# Altium footprint library IND.PcbLib: 9 footprints
Each footprint in its own frame and in the unit in brackets; x right, y up, seen from the top. Pads: shape width x height; smd on the part's side, far side on the other; paste and mask are expansions set on the pad; w line width, h text height; cw(c..) or ccw(c..) is an arc to the next point about the centre after c.
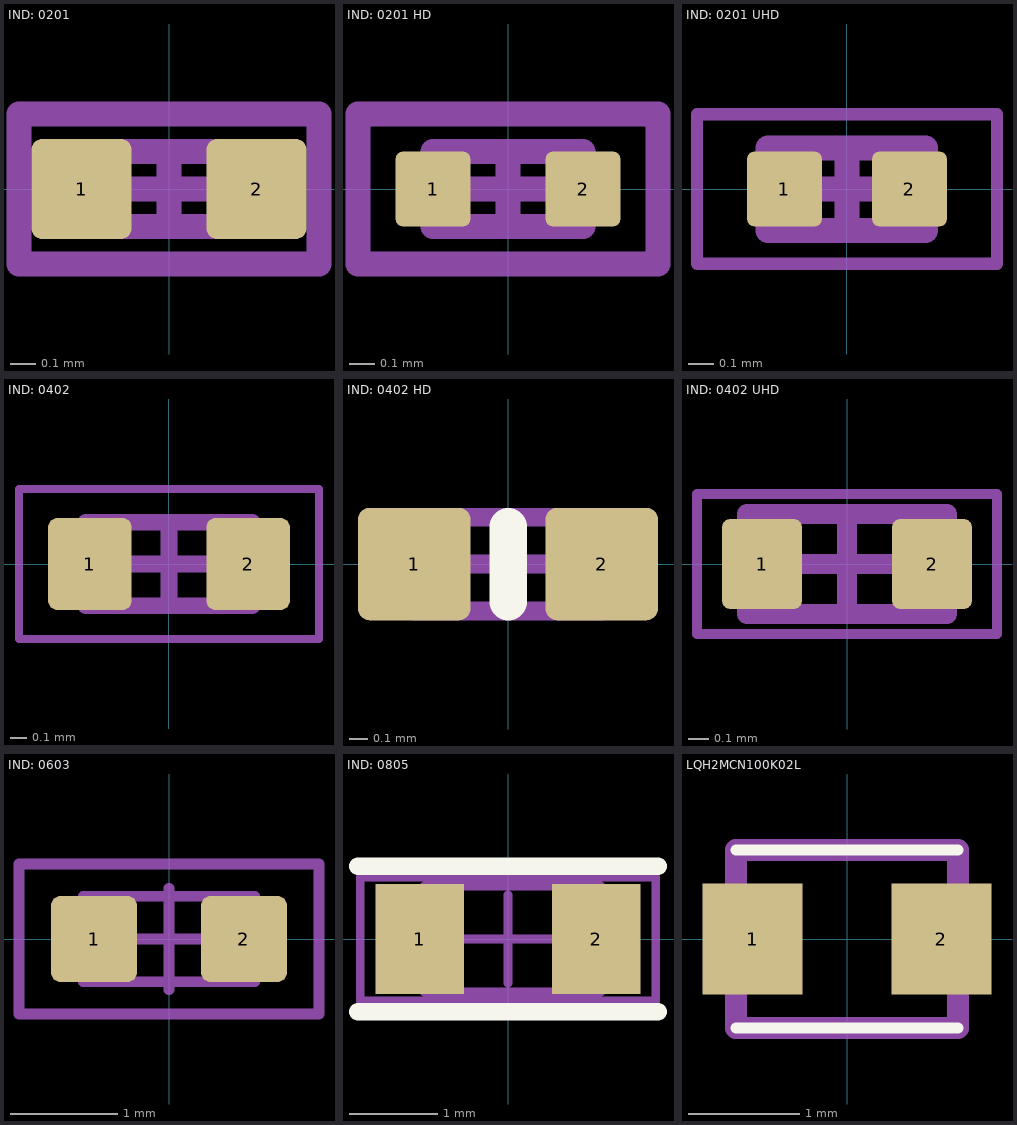
[diagram p0: the footprints below, top view; thin cyan lines are the x and y axes]

## IND: 0201 [mm]
height 0.23
pads (2):
  rrect20% 0.4x0.4 smd: 1(-0.35,0) 2(0.35,0)
Mechanical 1:
  lines w0.1: -0.3,-0.15 0.3,-0.15 0.3,0.15 -0.3,0.15 -0.3,-0.15
Mechanical 15:
  lines w0.1: -0.15,0 0.15,0 ; 0,-0.15 0,0.15 ; -0.6,-0.3 0.6,-0.3 0.6,0.3 -0.6,0.3 -0.6,-0.3
3D body "0201.SLDPRT": height 0.25, standoff 0, extent -0.3,-0.162 0.3,0.162

## IND: 0201 HD [mm]
height 0.23
pads (2):
  rrect20% 0.3x0.3 smd: 1(-0.3,0) 2(0.3,0)
Mechanical 1:
  lines w0.1: -0.3,-0.15 0.3,-0.15 0.3,0.15 -0.3,0.15 -0.3,-0.15
Mechanical 15:
  lines w0.1: -0.15,0 0.15,0 ; 0,-0.15 0,0.15 ; -0.6,-0.3 0.6,-0.3 0.6,0.3 -0.6,0.3 -0.6,-0.3
3D body "0201.SLDPRT": height 0.25, standoff 0, extent -0.3,-0.162 0.3,0.162

## IND: 0201 UHD [mm] "Chip Capacitor, 2-Leads, Body 0.62x0.32mm, IPC High Density"
height 0.33
pads (2):
  rrect20% 0.3x0.3 smd: 1(-0.25,0) 2(0.25,0)
Top Courtyard (Mech6):
  lines w0.05: -0.6,-0.3 -0.6,0.3 0.6,0.3 0.6,-0.3 -0.6,-0.3
  lines w0.1: -0.165,0 0.165,0 ; 0,-0.165 0,0.165
Top Assembly:
  lines w0.1: -0.315,-0.165 -0.315,0.165 0.315,0.165 0.315,-0.165 -0.315,-0.165
3D body "0201.SLDPRT": height 0.25, standoff 0, extent -0.3,-0.162 0.3,0.162

## IND: 0402 [mm]
height 0.4
pads (2):
  rrect20% 0.5x0.55 smd: 1(-0.475,0) 2(0.475,0)
Top Courtyard (Mech6):
  lines w0.05: -0.9,-0.45 -0.9,0.45 0.9,0.45 0.9,-0.45 -0.9,-0.45
  lines w0.1: -0.25,0 0.25,0 ; 0,-0.25 0,0.25
Top 3D Body:
  lines w0.1: -0.5,-0.25 -0.5,0.25 0.5,0.25 0.5,-0.25 -0.5,-0.25
3D body: height 0.4, standoff 0, extent -0.25,-0.25 0.25,0.25
3D body: height 0.4, standoff 0, extent -0.5,-0.25 -0.25,0.25
3D body: height 0.4, standoff 0, extent 0.25,-0.25 0.5,0.25

## IND: 0402 HD [mm]
height 0.35
pads (2):
  rrect20% 0.6x0.6 smd: 1(-0.5,0) 2(0.5,0)
Top Overlay:
  lines w0.2: 0,-0.2 0,0.2
Mechanical 1:
  lines w0.1: -0.5,-0.25 -0.5,0.25 0.5,0.25 0.5,-0.25 -0.5,-0.25
Mechanical 15:
  lines w0.1: -0.25,0 0.25,0 ; 0,-0.25 0,0.25
3D body: height 0.4, standoff 0, extent 0.25,-0.25 0.5,0.25
3D body: height 0.4, standoff 0, extent -0.5,-0.25 -0.25,0.25
3D body: height 0.4, standoff 0, extent -0.25,-0.25 0.25,0.25

## IND: 0402 UHD [mm] "Chip Resistor, 2-Leads, Body 1.00x0.50mm, IPC High Density C1005X04L"
height 0.4
pads (2):
  rrect20% 0.4x0.45 smd: 1(-0.425,0) 2(0.425,0)
Top Courtyard (Mech6):
  lines w0.05: -0.75,-0.35 0.75,-0.35 0.75,0.35 -0.75,0.35 -0.75,-0.35
  lines w0.1: -0.25,0 0.25,0 ; 0,-0.25 0,0.25
Top 3D Body:
  lines w0.1: -0.5,-0.25 0.5,-0.25 0.5,0.25 -0.5,0.25 -0.5,-0.25
3D body: height 0.4, standoff 0, extent 0.25,-0.25 0.5,0.25
3D body: height 0.4, standoff 0, extent -0.5,-0.25 -0.25,0.25
3D body: height 0.4, standoff 0, extent -0.25,-0.25 0.25,0.25

## IND: 0603 [mm]
height 0.45
pads (2):
  rrect20% 0.8x0.8 smd: 1(-0.7,0) 2(0.7,0)
Mechanical 1:
  lines w0.1: -0.8,-0.4 -0.8,0.4 0.8,0.4 0.8,-0.4 -0.8,-0.4
Top Courtyard (Mech6):
  lines w0.1: -1.4,-0.7 1.4,-0.7 1.4,0.7 -1.4,0.7 -1.4,-0.7
Mechanical 15:
  lines w0.1: -0.475,0 0.475,0 ; 0,-0.475 0,0.475
3D body "0603.SLDPRT": height 0.46, standoff -0.01, extent -0.8,-0.413 0.8,0.413

## IND: 0805 [mm]
height 0.45
pads (2):
  rect 1x1.25 smd: 1(-1,0) 2(1,0)
Top Overlay:
  lines w0.2: -1.7,-0.825 1.7,-0.825 ; -1.7,0.825 1.7,0.825
Mechanical 1:
  lines w0.1: -0.949,-0.6 -0.949,0.6 1.05,0.6 1.05,-0.6 -0.949,-0.6
Top Courtyard (Mech6):
  lines w0.1: -1.675,-0.7 -1.675,0.7 1.675,0.7 1.675,-0.7 -1.675,-0.7
Mechanical 15:
  lines w0.1: -0.5,0 0.5,0 ; 0,-0.5 0,0.5
3D body "0805.SLDPRT": height 0.61, standoff -0.01, extent -1,-0.637 1,0.637

## LQH2MCN100K02L [mm]
pads (2):
  rect 0.9x1 smd: 1(-0.85,0) 2(0.85,0)
Top Overlay:
  lines w0.1: -1,-0.8 1,-0.8 ; -1,0.8 1,0.8
Top 3D Body:
  lines w0.2: -1,-0.8 1,-0.8 1,0.8 -1,0.8 -1,-0.8
3D body "LQH2MCN470K02L.stp": height 0.97, standoff 0, extent -1,-0.8 1,0.8